# EAGLE library part ONION-OMEGA2 (library IoTMakers)
Onion Omega
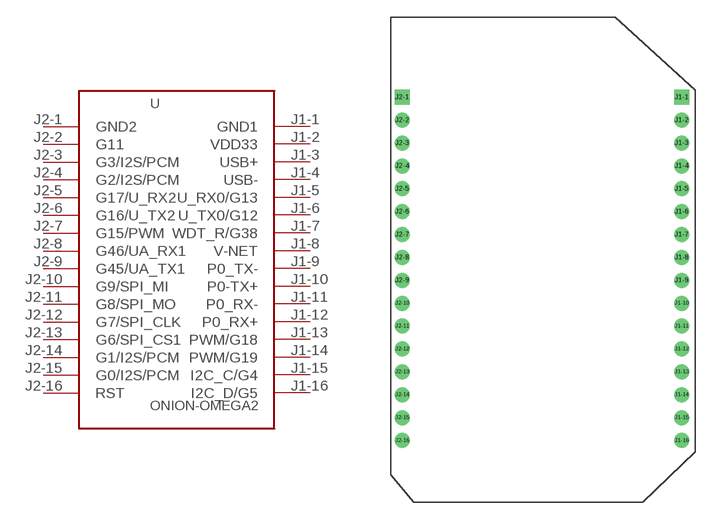
[diagram p6: symbol with the pads of ONION-2MM-2X16; footprint ONION-2MM-2X16]

Designator prefix U

## ONION-OMEGA2  [ONION-2MM-2X16]
J1-1  GND1
J1-2  VDD33
J1-3  USB+
J1-4  USB-
J1-5  U_RX0/G13
J1-6  U_TX0/G12
J1-7  WDT_R/G38
J1-8  V-NET
J1-9  P0_TX-
J1-10  P0-TX+
J1-11  P0_RX-
J1-12  P0_RX+
J1-13  PWM/G18
J1-14  PWM/G19
J1-15  I2C_C/G4
J1-16  I2C_D/G5
J2-1  GND2
J2-2  G11
J2-3  G3/I2S/PCM
J2-4  G2/I2S/PCM
J2-5  G17/U_RX2
J2-6  G16/U_TX2
J2-7  G15/PWM
J2-8  G46/UA_RX1
J2-9  G45/UA_TX1
J2-10  G9/SPI_MI
J2-11  G8/SPI_MO
J2-12  G7/SPI_CLK
J2-13  G6/SPI_CS1
J2-14  G1/I2S/PCM
J2-15  G0/I2S/PCM
J2-16  RST

## Footprint ONION-2MM-2X16 (pad centres in mm)
Footprint für Onion Omega
drill 0.8 square: J1-1 12.4,14; J2-1 -12,14
drill 0.8: J1-2 12.4,12; J1-3 12.4,10; J1-4 12.4,8; J1-5 12.4,6; J1-6 12.4,4; J1-7 12.4,2; J1-8 12.4,0; J1-9 12.4,-2; J1-10 12.4,-4; J1-11 12.4,-6; J1-12 12.4,-8; J1-13 12.4,-10; J1-14 12.4,-12; J1-15 12.4,-14; J1-16 12.4,-16; J2-2 -12,12; J2-3 -12,10; J2-4 -12,8; J2-5 -12,6; J2-6 -12,4; J2-7 -12,2; J2-8 -12,0; J2-9 -12,-2; J2-10 -12,-4; J2-11 -12,-6; J2-12 -12,-8; J2-13 -12,-10; J2-14 -12,-12; J2-15 -12,-14; J2-16 -12,-16